# EAGLE library part SP3485 (library doz)
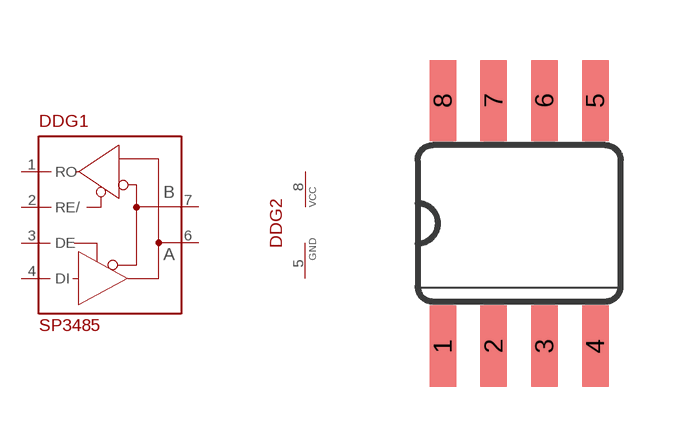
[diagram p19: symbol with the pads of SO08; footprint SO08]

Designator prefix DD; gates G1=SP3485 G2=P-GATE

## SP3485  [SO08]
1  G1:RO  out
2  G1:RE/  in
3  G1:DE  in
4  G1:DI  in
5  G2:GND  pwr
6  G1:A  pas
7  G1:B  pas
8  G2:VCC  pwr

## Footprint SO08 (pad centres in mm)
SOIC 150 mil
smd 0.66 x 2.032: 1 -1.905,-3.073; 2 -0.635,-3.073; 3 0.635,-3.073; 4 1.905,-3.073; 5 1.905,3.073; 6 0.635,3.073; 7 -0.635,3.073; 8 -1.905,3.073